# Altium footprint library DSO-F2.PcbLib: 1 footprints
Each footprint in its own frame and in the unit in brackets; x right, y up, seen from the top. Pads: shape width x height; smd on the part's side, far side on the other; paste and mask are expansions set on the pad; w line width, h text height; cw(c..) or ccw(c..) is an arc to the next point about the centre after c.
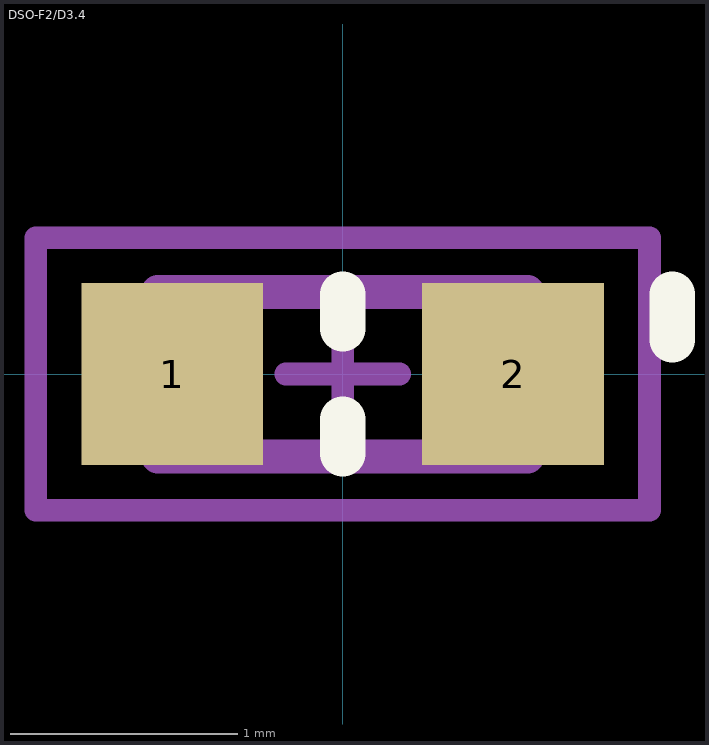
[diagram p0: the footprint, top view; thin cyan lines are the x and y axes]

## DSO-F2/D3.4 [mm] "SM LED; 2 Flat Leads"
height 0.8
pads (2):
  rect 0.8x0.8 smd: 1(-0.75,0) 2(0.75,0)
Top Overlay:
  lines w0.2: 0,-0.35 0,-0.2 ; 0,0.2 0,0.35 ; 1.45,0.15 1.45,0.35
Mechanical 13:
  lines w0.15: -0.813,0.361 -0.813,0.141 cw(c-0.813,0.001) -0.813,-0.14 -0.813,-0.362 0.813,-0.363 0.813,-0.141 cw(c0.813,-0.001) 0.813,0.14 0.813,0.361 -0.813,0.361
Mechanical 15:
  lines w0.1: -0.25,0 0.25,0 ; 0,-0.25 0,0.25 ; -1.35,-0.6 -1.35,0.6 1.35,0.6 1.35,-0.6 -1.35,-0.6
3D body: height 0.71, standoff -0.01, extent -0.813,-0.387 0.813,0.4